# EAGLE library part CAP_ARRAY (library Cool_Electricity)
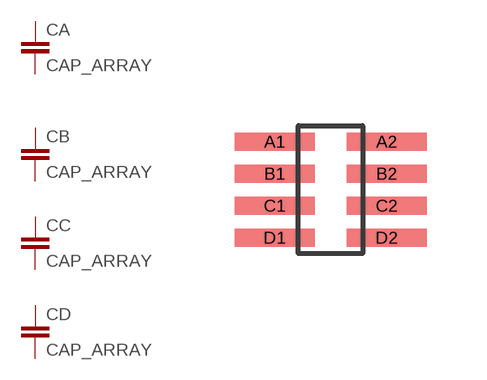
[diagram p11: symbol with the pads of 1206_NETWORK; footprint 1206_NETWORK]

Designator prefix C; gates A=CAP B=CAP C=CAP D=CAP

## CAP_ARRAY  [1206_NETWORK]
A1  A:1  pas
A2  A:2  pas
B1  B:1  pas
B2  B:2  pas
C1  C:1  pas
C2  C:2  pas
D1  D:1  pas
D2  D:2  pas

## Footprint 1206_NETWORK (pad centres in mm)
smd 2 x 0.45: A1 -1.4,1.2; A2 1.4,1.2; B1 -1.4,0.4; B2 1.4,0.4; C1 -1.4,-0.4; C2 1.4,-0.4; D1 -1.4,-1.2; D2 1.4,-1.2